# Altium schematic symbol library analog_mux.SchLib: 9 symbols
Pins are listed as number, name and electrical type; pins without a type are passive.

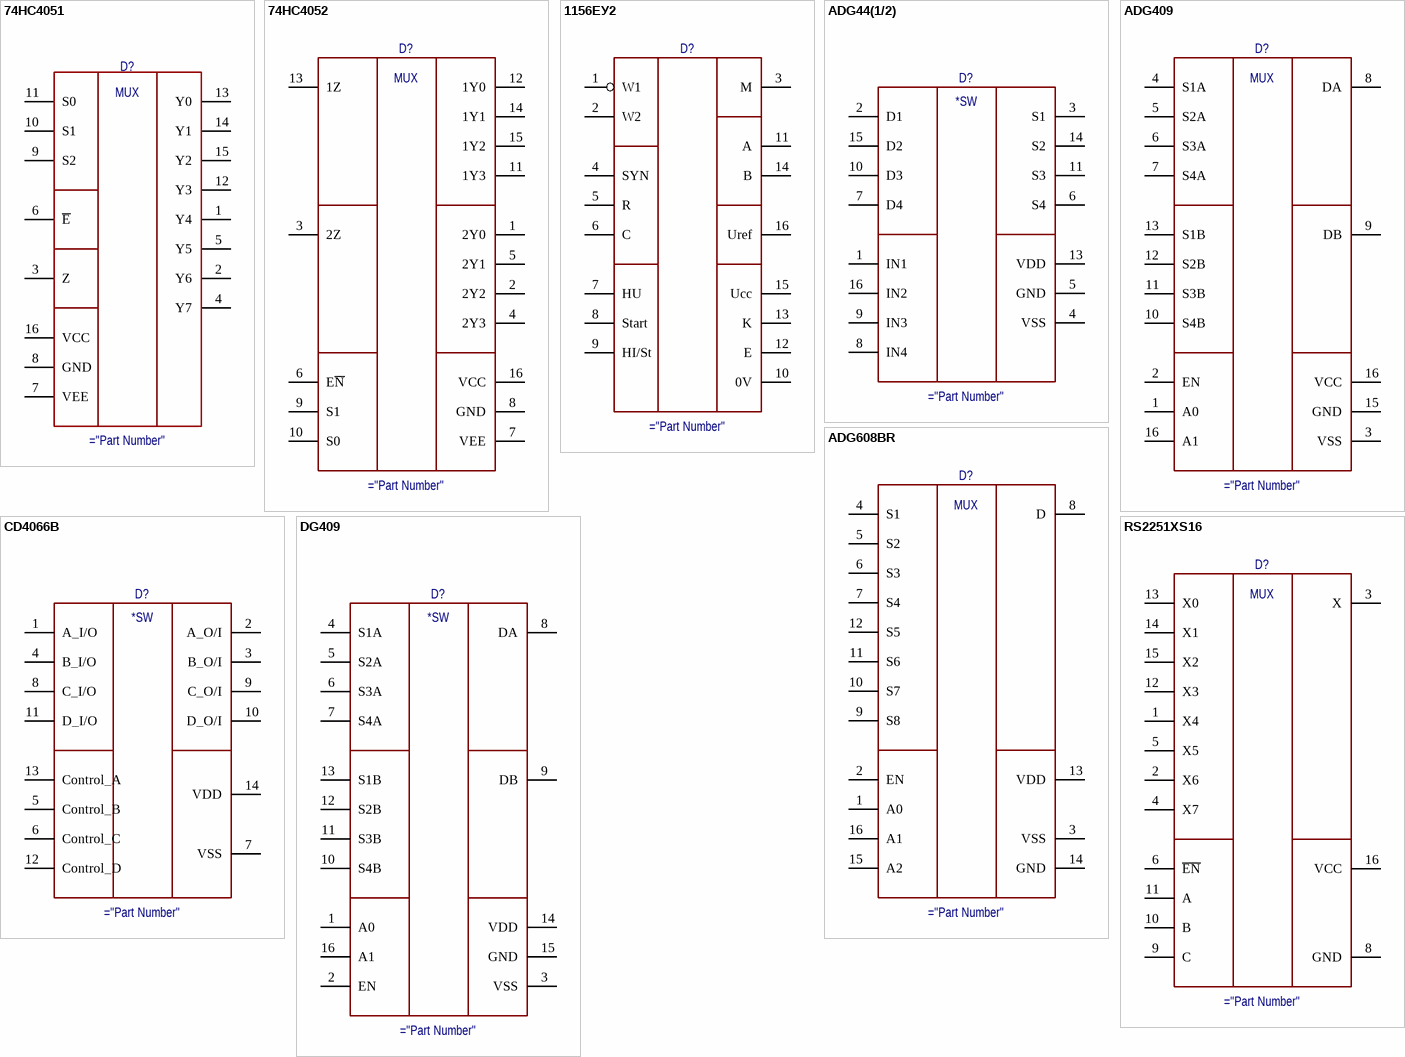
[diagram p0: symbols 74HC4051 to RS2251XS16]

## 74HC4051
designator D?
8-channel analog multiplexer/demultiplexer
pins: 1 Y4, 2 Y6, 3 Z, 4 Y7, 5 Y5, 6 ~{E}, 7 VEE, 8 GND, 9 S2, 10 S1, 11 S0, 12 Y3, 13 Y0, 14 Y1, 15 Y2, 16 VCC
text: MUX

## 74HC4052
designator D?
Dual 4-channel analog multiplexer, / demultiplexer
pins: 1 2Y0, 2 2Y2, 3 2Z, 4 2Y3, 5 2Y1, 6 E~{N}, 7 VEE, 8 GND, 9 S1, 10 S0, 11 1Y3, 12 1Y0, 13 1Z, 14 1Y1, 15 1Y2, 16 VCC
text: MUX

## 1156ЕУ2
designator D?
PWM Controller
pins: 1 W1, 2 W2, 3 M, 4 SYN, 5 R, 6 C, 7 HU, 8 Start, 9 HI/St, 10 0V, 11 A, 12 E, 13 K, 14 B, 15 Ucc, 16 Uref

## ADG44(1/2)
designator D?
Quad SPST-NO Switches
pins: 1 IN1, 2 D1, 3 S1, 4 VSS, 5 GND, 6 S4, 7 D4, 8 IN4, 9 IN3, 10 D3, 11 S3, 13 VDD, 14 S2, 15 D2, 16 IN2
text: *SW

## ADG409
designator D?
Dual 4-channel analog multiplexer
pins: 1 A0, 2 EN, 3 VSS, 4 S1A, 5 S2A, 6 S3A, 7 S4A, 8 DA, 9 DB, 10 S4B, 11 S3B, 12 S2B, 13 S1B, 15 GND, 16 VCC, 16 A1
text: MUX

## ADG608BR
designator D?
Analog Mux 8ch
pins: 1 A0, 2 EN, 3 VSS, 4 S1, 5 S2, 6 S3, 7 S4, 8 D, 9 S8, 10 S7, 11 S6, 12 S5, 13 VDD, 14 GND, 15 A2, 16 A1
text: MUX

## CD4066B
designator D?
Quad bilateral switch / MUX
pins: 1 A_I/O, 2 A_O/I, 3 B_O/I, 4 B_I/O, 5 Control_B, 6 Control_C, 7 VSS, 8 C_I/O, 9 C_O/I, 10 D_O/I, 11 D_I/O, 12 Control_D, 13 Control_A, 14 VDD
text: *SW

## DG409
designator D?
8 ch. Single ended An MUX
pins: 1 A0, 2 EN, 3 VSS, 4 S1A, 5 S2A, 6 S3A, 7 S4A, 8 DA, 9 DB, 10 S4B, 11 S3B, 12 S2B, 13 S1B, 14 VDD, 15 GND, 16 A1
text: *SW

## RS2251XS16
designator D?
Analog Mux 8ch
pins: 1 X4, 2 X6, 3 X, 4 X7, 5 X5, 6 ~{EN}, 7 NC hidden, 8 GND, 9 C, 10 B, 11 A, 12 X3, 13 X0, 14 X1, 15 X2, 16 VCC
text: MUX